# Altium footprint library Passives.PcbLib: 18 footprints (part 2 of 2)
Each footprint in its own frame and in the unit in brackets; x right, y up, seen from the top. Pads: shape width x height; smd on the part's side, far side on the other; paste and mask are expansions set on the pad; w line width, h text height; cw(c..) or ccw(c..) is an arc to the next point about the centre after c.
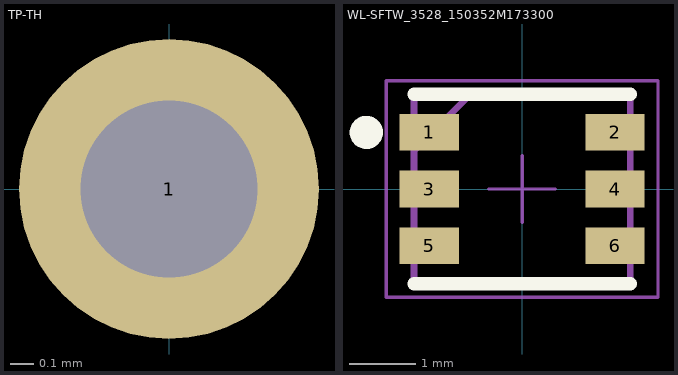
[diagram p1: the footprints below, top view; thin cyan lines are the x and y axes]

## TP-TH [mm] "Through hole test point meant to fit 1/4W resistor leg"
pads (1):
  round 1.27 hole 0.75: 1(0,0)

## WL-SFTW_3528_150352M173300 [mm] "SMT Full-color TOP LED Waterclear, body 3.5x2.8mm"
height 1.85
pads (6):
  rect 0.89x0.55 smd: 1(-1.395,0.85) 2(1.395,0.85) 3(-1.395,0) 4(1.395,0) 5(-1.395,-0.85) 6(1.395,-0.85)
Top Overlay:
  circle w0.25: c-2.34,0.85 r0.125
  lines w0.2: -1.625,-1.425 1.625,-1.425 ; -1.625,1.425 1.625,1.425
Top Courtyard:
  lines w0.05: -0.5,0 0.5,0 ; 0,-0.5 0,0.5 ; -2.04,-1.625 2.04,-1.625 2.04,1.625 -2.04,1.625 -2.04,-1.625
Top Component Outline:
  lines w0.1: -1.6,0.6 -0.8,1.4 ; -1.625,-1.425 1.625,-1.425 1.625,1.425 -1.625,1.425 -1.625,-1.425
3D body "150352M1xxx.stp": height 1.78, standoff -0.01, extent -1.751,-1.4 1.751,1.4